# EAGLE library part 5X8_2C (library led-seg)
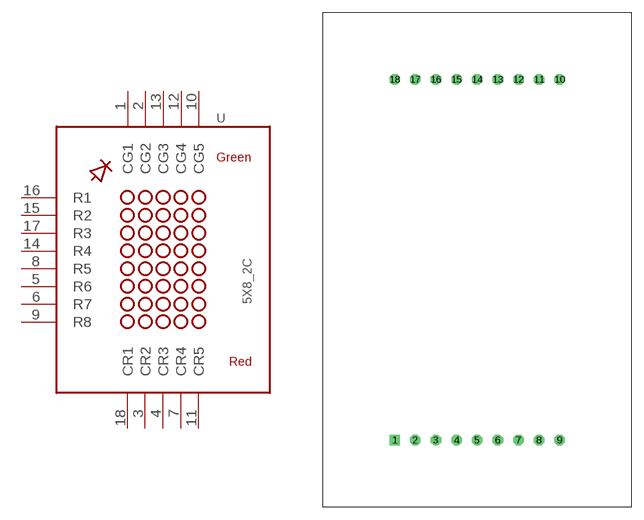
[diagram p9: symbol with the pads of 581MT5G; footprint 581MT5G]

Designator prefix -

## 5X8_2C  [581MT5G]
1  CG1  in
2  CG2  in
3  CR2  in
4  CR3  in
5  R6  in
6  R7  in
7  CR4  in
8  R5  in
9  R8  in
10  CG5  in
11  CR5  in
12  CG4  in
13  CG3  in
14  R4  in
15  R2  in
16  R1  in
17  R3  in
18  CR1  in

## Footprint 581MT5G (pad centres in mm)
drill 0.8 square: 1 -10.16,-22.225
drill 0.8 octagon: 2 -7.62,-22.225; 3 -5.08,-22.225; 4 -2.54,-22.225; 5 0,-22.225; 6 2.54,-22.225; 7 5.08,-22.225; 8 7.62,-22.225; 9 10.16,-22.225; 10 10.16,22.225; 11 7.62,22.225; 12 5.08,22.225; 13 2.54,22.225; 14 0,22.225; 15 -2.54,22.225; 16 -5.08,22.225; 17 -7.62,22.225; 18 -10.16,22.225